# Altium integrated library 3306F-1-104.IntLib: 1 symbol
Pins are listed as number, name and electrical type; pins without a type are passive.

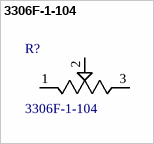
[diagram p0: symbol 3306F-1-104]

## 3306F-1-104
designator R?
100 kOhms 0.2W, 1/5W PC Pins Through Hole Trimmer Potentiometer Cermet 1 Turn Top Adjustment; MF: Bourns; Availability: Unavailable; SnapEDA_Link: https://www.snapeda.com/parts/3306F-1-104/Bourns/view-part/372285/?ref=snap; Price: None; MP: 3306F-1-104; Package: 6432 Bourns; Value: *
footprint *TRIM_3306F-1-104
pins: 1 CCW, 2 W, 3 CW